# EAGLE library part DS1090U-32+ (library InterfaceParts)
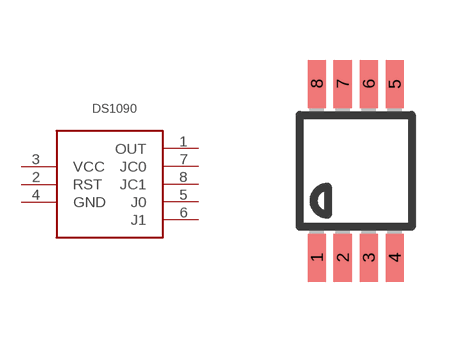
[diagram p3: symbol with the pads of UMAX8; footprint UMAX8]

Designator prefix -

## DS1090U-32+  [UMAX8]
1  OUT
2  RST
3  VCC
4  GND
5  J0
6  J1
7  JC0
8  JC1

## Footprint UMAX8 (pad centres in mm)
micro MAX Package
smd 0.45 x 1.2: 1 -0.975,-2.175; 2 -0.325,-2.175; 3 0.325,-2.175; 4 0.975,-2.175; 5 0.975,2.175; 6 0.325,2.175; 7 -0.325,2.175; 8 -0.975,2.175